# Altium footprint library Ind_TDK_MLF1005GR47JT000_470nH.PcbLib: 1 footprints
Each footprint in its own frame and in the unit in brackets; x right, y up, seen from the top. Pads: shape width x height; smd on the part's side, far side on the other; paste and mask are expansions set on the pad; w line width, h text height; cw(c..) or ccw(c..) is an arc to the next point about the centre after c.
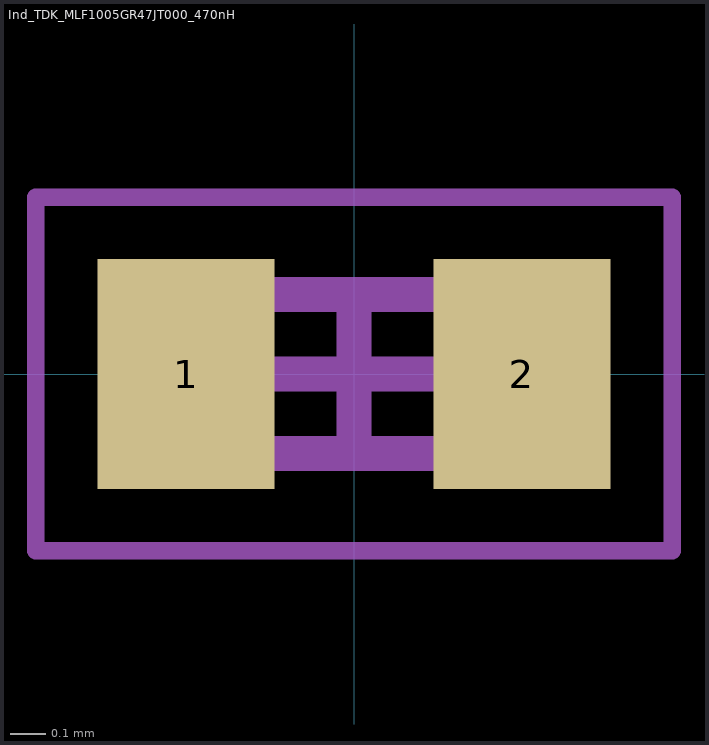
[diagram p0: the footprint, top view; thin cyan lines are the x and y axes]

## Ind_TDK_MLF1005GR47JT000_470nH [mm]
pads (2):
  rect 0.5x0.65 smd: 1(-0.475,0) 2(0.475,0)
Mechanical 13:
  lines w0.1: -0.525,-0.225 -0.525,0.225 0.525,0.225 0.525,-0.225 -0.525,-0.225
Mechanical 15:
  lines w0.05: -0.9,-0.5 -0.9,0.5 0.9,0.5 0.9,-0.5 -0.9,-0.5
  lines w0.1: -0.225,0 0.225,0 ; 0,-0.225 0,0.225
3D body "44.step": height 0.55, standoff 0, extent -0.525,-0.225 0.525,0.225